# Altium schematic symbol library SCH - RELAY - AZSR1651A24DL.SCHLIB: 1 symbol
Pins are listed as number, name and electrical type; pins without a type are passive.

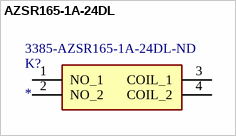
[diagram p0: symbol AZSR165-1A-24DL]

## AZSR165-1A-24DL
designator K?  Supplier Part Number 1: 3385-AZSR165-1A-24DL-ND
80A Wide Gap Relay; Manufacturer: American Zettler; Manufacturer Part Number: AZSR165-1A-24DL; Supplier 1: Digi-Key; RoHS: No; Category: Power Relays; Stock 1: 312; Pricing 1: 1=12,00000, 10=11,24900, 25=9,99920, 40=9,49900, 150=8,99907, 300=7,99920, 450=7,49924, 1050=6,99930 (USD)
footprint AZSR1651A12DL
pins: 1 NO_1, 2 NO_2, 3 COIL_1, 4 COIL_2